# Altium footprint library 7.接插件封装.PcbLib: 201 footprints (part 11 of 13)
Each footprint in its own frame and in the unit in brackets; x right, y up, seen from the top. Pads: shape width x height; smd on the part's side, far side on the other; paste and mask are expansions set on the pad; w line width, h text height; cw(c..) or ccw(c..) is an arc to the next point about the centre after c.
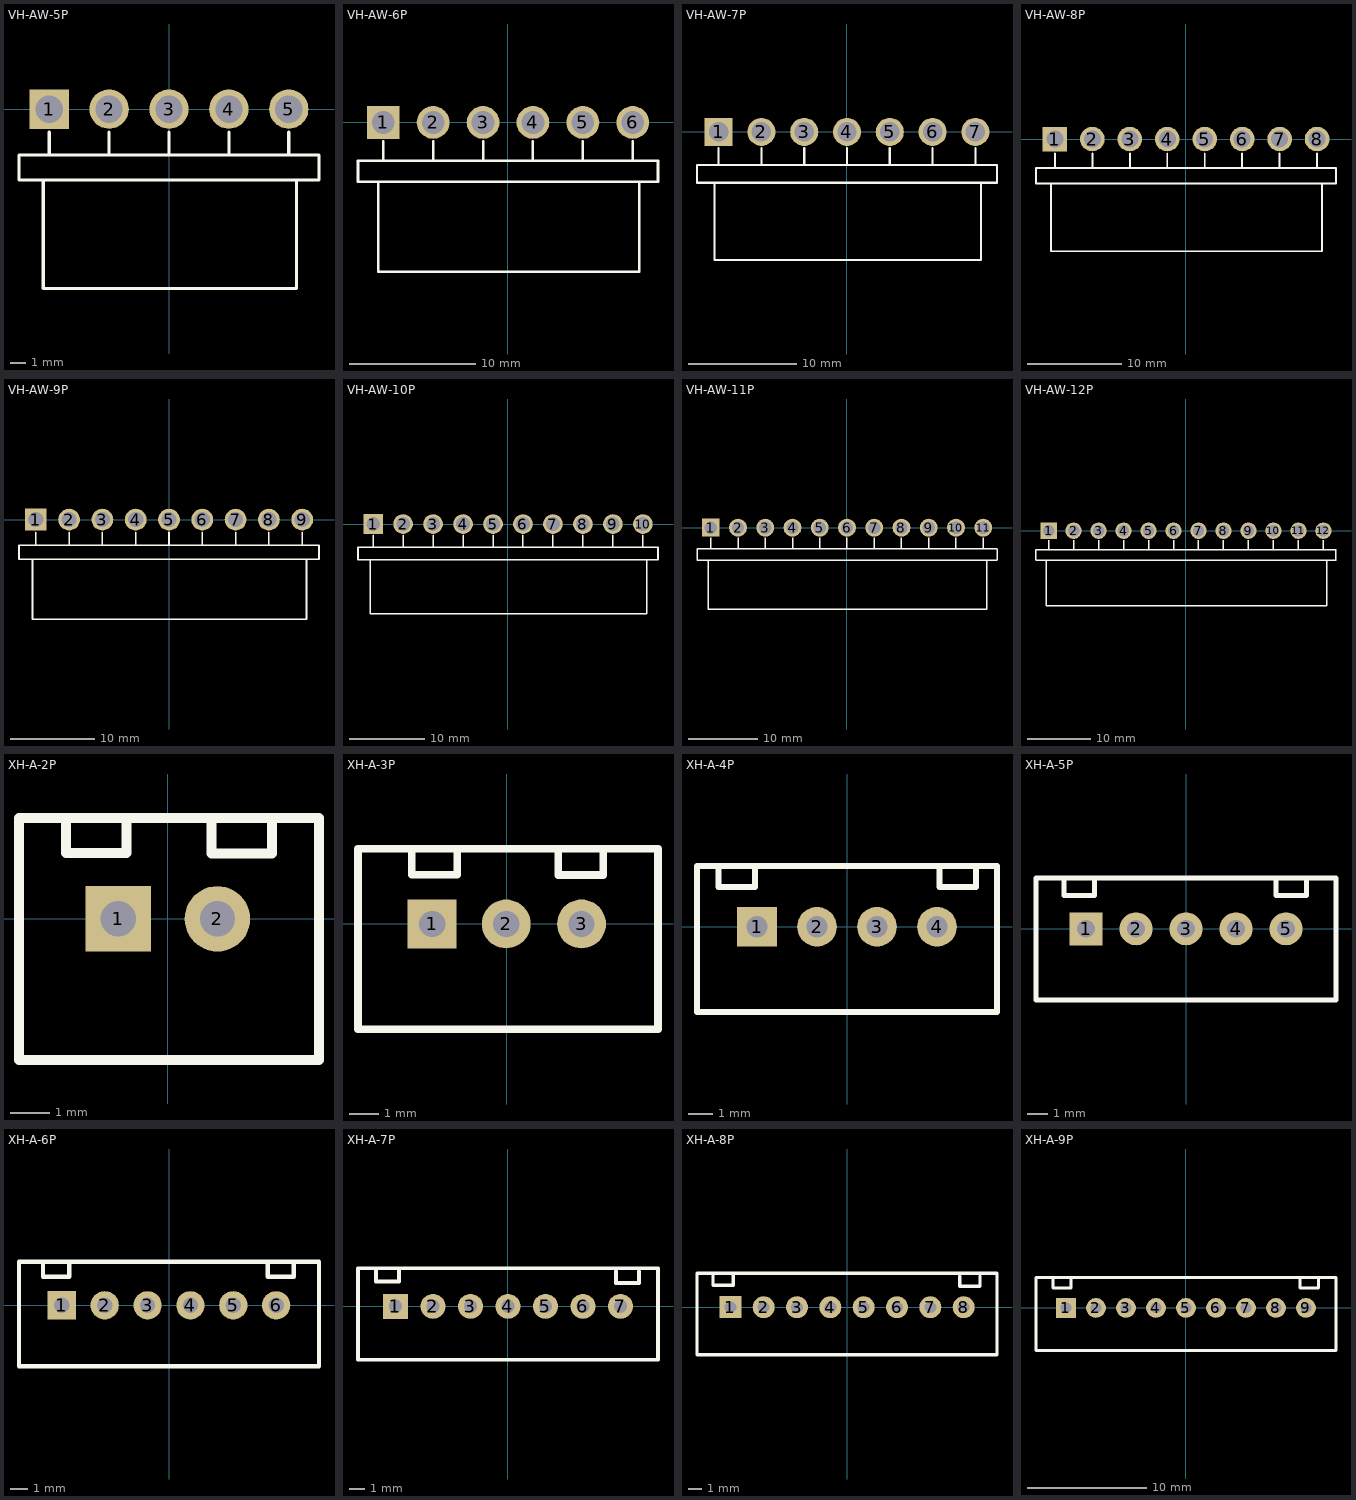
[diagram p10: the footprints below, top view; thin cyan lines are the x and y axes]

## VH-AW-5P [mm]
height 1.4
pads (5):
  rect 2.6x2.6 hole 1.8: 1(-7.92,0)
  round 2.6 hole 1.8: 2(-3.96,0) 3(0,0) 4(3.96,0) 5(7.92,0)
Top Overlay:
  lines w0.2: -9.92,-4.7 -9.92,-3.048 9.911,-3.048 9.92,-3.057 9.92,-4.7 ; -9.901,-4.7 9.911,-4.7 ; -8.316,-4.699 -8.316,-11.862 8.428,-11.862 8.428,-4.724 ; -7.92,-3.048 -7.92,-1.5 ; -3.96,-3.048 -3.96,-1.5 ; 0,-3.048 0,-1.5 ; 3.96,-3.048 3.96,-1.5 ; 7.92,-3.048 7.92,-1.5

## VH-AW-6P [mm]
pads (6):
  rect 2.6x2.6 hole 1.8: 1(-9.9,0)
  round 2.6 hole 1.8: 2(-5.94,0) 3(-1.98,0) 4(1.98,0) 5(5.94,0) 6(9.9,0)
Top Overlay:
  lines w0.2: -11.9,-4.7 -11.9,-3.048 11.9,-3.048 ; -11.881,-4.7 11.9,-4.7 11.9,-3.057 11.891,-3.048 ; -10.296,-4.699 -10.296,-11.862 10.408,-11.862 10.408,-4.724 ; -9.9,-3.048 -9.9,-1.5 ; -5.94,-3.048 -5.94,-1.5 ; -1.98,-3.048 -1.98,-1.5 ; 1.98,-3.048 1.98,-1.5 ; 5.94,-3.048 5.94,-1.5 ; 9.9,-3.048 9.9,-1.5

## VH-AW-7P [mm]
pads (7):
  rect 2.6x2.6 hole 1.8: 1(-11.88,0)
  round 2.6 hole 1.8: 2(-7.92,0) 3(-3.96,0) 4(0,0) 5(3.96,0) 6(7.92,0) 7(11.88,0)
Top Overlay:
  lines w0.2: -13.88,-4.7 -13.88,-3.048 13.88,-3.048 ; -13.861,-4.7 13.88,-4.7 13.88,-3.057 ; -12.276,-4.699 -12.276,-11.862 12.388,-11.862 12.388,-4.724 ; -11.88,-3.048 -11.88,-1.5 ; -7.92,-3.048 -7.92,-1.5 ; -3.96,-3.048 -3.96,-1.5 ; 0,-3.048 0,-1.5 ; 3.96,-3.048 3.96,-1.5 ; 5.951,-3.048 5.96,-3.057 ; 7.92,-3.048 7.92,-1.5 ; 11.88,-3.048 11.88,-1.5

## VH-AW-8P [mm]
pads (8):
  rect 2.6x2.6 hole 1.8: 1(-13.86,0)
  round 2.6 hole 1.8: 2(-9.9,0) 3(-5.94,0) 4(-1.98,0) 5(1.98,0) 6(5.94,0) 7(9.9,0) 8(13.86,0)
Top Overlay:
  lines w0.2: -15.86,-4.7 -15.86,-3.048 15.86,-3.048 ; -15.841,-4.7 15.86,-4.7 15.86,-3.057 ; -14.256,-4.699 -14.256,-11.862 14.368,-11.862 14.368,-4.724 ; -13.86,-3.048 -13.86,-1.5 ; -9.9,-3.048 -9.9,-1.5 ; -5.94,-3.048 -5.94,-1.5 ; -1.98,-3.048 -1.98,-1.5 ; 1.98,-3.048 1.98,-1.5 ; 3.971,-3.048 3.98,-3.057 ; 5.94,-3.048 5.94,-1.5 ; 9.9,-3.048 9.9,-1.5 ; 13.86,-3.048 13.86,-1.5

## VH-AW-9P [mm]
pads (9):
  rect 2.6x2.6 hole 1.8: 1(-15.84,0)
  round 2.6 hole 1.8: 2(-11.88,0) 3(-7.92,0) 4(-3.96,0) 5(0,0) 6(3.96,0) 7(7.92,0) 8(11.88,0) 9(15.84,0)
Top Overlay:
  lines w0.2: -17.84,-4.7 -17.84,-3.048 17.84,-3.048 ; -17.821,-4.7 17.84,-4.7 17.84,-3.057 ; -16.236,-4.699 -16.236,-11.862 16.333,-11.862 ; -15.84,-3.048 -15.84,-1.5 ; -11.88,-3.048 -11.88,-1.5 ; -7.92,-3.048 -7.92,-1.5 ; -3.96,-3.048 -3.96,-1.5 ; 0,-3.048 0,-1.5 ; 1.991,-3.048 2,-3.057 ; 3.96,-3.048 3.96,-1.5 ; 7.92,-3.048 7.92,-1.5 ; 11.88,-3.048 11.88,-1.5 ; 15.84,-3.048 15.84,-1.5 ; 16.348,-11.862 16.348,-4.724

## VH-AW-10P [mm]
pads (10):
  rect 2.6x2.6 hole 1.8: 1(-17.82,0)
  round 2.6 hole 1.8: 2(-13.86,0) 3(-9.9,0) 4(-5.94,0) 5(-1.98,0) 6(1.98,0) 7(5.94,0) 8(9.9,0) 9(13.86,0) 10(17.82,0)
Top Overlay:
  lines w0.2: -19.82,-4.7 -19.82,-3.048 19.82,-3.048 ; -19.801,-4.7 19.82,-4.7 19.82,-3.057 ; -18.216,-4.699 -18.216,-11.862 18.328,-11.862 18.328,-4.724 ; -17.82,-3.048 -17.82,-1.5 ; -13.86,-3.048 -13.86,-1.5 ; -9.9,-3.048 -9.9,-1.5 ; -5.94,-3.048 -5.94,-1.5 ; -1.98,-3.048 -1.98,-1.5 ; 0.011,-3.048 0.02,-3.057 ; 1.98,-3.048 1.98,-1.5 ; 5.94,-3.048 5.94,-1.5 ; 9.9,-3.048 9.9,-1.5 ; 13.86,-3.048 13.86,-1.5 ; 17.82,-3.048 17.82,-1.5

## VH-AW-11P [mm]
pads (11):
  rect 2.6x2.6 hole 1.8: 1(-19.8,0)
  round 2.6 hole 1.8: 2(-15.84,0) 3(-11.88,0) 4(-7.92,0) 5(-3.96,0) 6(0,0) 7(3.96,0) 8(7.92,0) 9(11.88,0) 10(15.84,0) 11(19.8,0)
Top Overlay:
  lines w0.2: -21.8,-4.7 -21.8,-3.048 21.8,-3.048 ; -21.781,-4.7 21.8,-4.7 21.8,-3.057 ; -20.196,-4.699 -20.196,-11.862 20.308,-11.862 ; -19.8,-3.048 -19.8,-1.5 ; -15.84,-3.048 -15.84,-1.5 ; -11.88,-3.048 -11.88,-1.5 ; -7.92,-3.048 -7.92,-1.5 ; -3.96,-3.048 -3.96,-1.5 ; -1.969,-3.048 -1.96,-3.057 ; 0,-3.048 0,-1.5 ; 3.96,-3.048 3.96,-1.5 ; 7.92,-3.048 7.92,-1.5 ; 11.88,-3.048 11.88,-1.5 ; 15.84,-3.048 15.84,-1.5 ; 19.8,-3.048 19.8,-1.5 ; 20.308,-11.862 20.308,-4.724

## VH-AW-12P [mm]
pads (12):
  rect 2.6x2.6 hole 1.8: 1(-21.78,0)
  round 2.6 hole 1.8: 2(-17.82,0) 3(-13.86,0) 4(-9.9,0) 5(-5.94,0) 6(-1.98,0) 7(1.98,0) 8(5.94,0) 9(9.9,0) 10(13.86,0) 11(17.82,0) 12(21.78,0)
Top Overlay:
  lines w0.2: -23.78,-4.7 -23.78,-3.048 23.78,-3.048 ; -23.761,-4.7 23.78,-4.7 ; -22.176,-4.699 -22.176,-11.862 22.288,-11.862 22.288,-4.724 ; -21.78,-3.048 -21.78,-1.5 ; -17.82,-3.048 -17.82,-1.5 ; -13.86,-3.048 -13.86,-1.5 ; -9.9,-3.048 -9.9,-1.5 ; -5.94,-3.048 -5.94,-1.5 ; -3.949,-3.048 -3.94,-3.057 ; -1.98,-3.048 -1.98,-1.5 ; 1.98,-3.048 1.98,-1.5 ; 5.94,-3.048 5.94,-1.5 ; 9.9,-3.048 9.9,-1.5 ; 13.86,-3.048 13.86,-1.5 ; 17.82,-3.048 17.82,-1.5 ; 21.78,-3.048 21.78,-1.5 ; 23.78,-4.7 23.78,-3.057

## XH-A-2P [mil]
height 275.59
pads (2):
  rect 65x65 hole 35: 1(-49.21,0)
  round 65 hole 35: 2(49.21,0)
Top Overlay:
  lines w10: -101.1,96.18 -101.1,65.31 -41.1,65.31 -41.1,96.18 ; 43.19,96.18 43.19,65 103.19,65 103.19,96.18 ; -147.64,-140 150,-140 150,100 -147.64,100 -147.64,-140

## XH-A-3P [mil]
height 275.59
pads (3):
  rect 65x65 hole 35: 1(-99.21,0)
  round 65 hole 35: 2(-0.79,0) 3(99.21,0)
Top Overlay:
  lines w10: -126.1,96.18 -126.1,65.31 -66.1,65.31 -66.1,96.18 ; 68.19,96.18 68.19,65 128.19,65 128.19,96.18 ; -197.64,-140 200.79,-140 200.79,100 -197.64,100 -197.64,-140

## XH-A-4P [mil]
height 275.59
pads (4):
  rect 65x65 hole 35: 1(-147.64,0)
  round 65 hole 35: 2(-49.21,0) 3(49.21,0) 4(147.64,0)
Top Overlay:
  lines w10: -210.59,96.18 -210.59,65.31 -150.59,65.31 -150.59,96.18 ; 151.61,96.18 151.61,65.31 211.61,65.31 211.61,96.18 ; -246.06,-140 246.06,-140 246.06,100 -246.06,100 -246.06,-140

## XH-A-5P [mil]
height 275.59
pads (5):
  rect 65x65 hole 35: 1(-196.85,0)
  round 65 hole 35: 2(-98.43,0) 3(0,0) 4(98.43,0) 5(196.85,0)
Top Overlay:
  lines w10: -240.12,96.18 -240.12,65.31 -180.12,65.31 -180.12,96.18 ; 177.2,96.18 177.2,65.31 237.2,65.31 237.2,96.18 ; -295.28,-140 -295.28,100 295.28,100 295.28,-140 -295.28,-140

## XH-A-6P [mil]
height 275.59
pads (6):
  rect 65x65 hole 35: 1(-246.06,0)
  round 65 hole 35: 2(-147.64,0) 3(-49.21,0) 4(49.21,0) 5(147.64,0) 6(246.06,0)
Top Overlay:
  lines w10: -289.33,96.18 -289.33,65.31 -229.33,65.31 -229.33,96.18 ; 226.42,96.18 226.42,65.31 286.42,65.31 286.42,96.18 ; -344.49,-140 -344.49,100 344.49,100 344.49,-140 -344.49,-140

## XH-A-7P [mil]
pads (7):
  rect 65x65 hole 35: 1(-295.28,0)
  round 65 hole 35: 2(-196.85,0) 3(-98.43,0) 4(0,0) 5(98.43,0) 6(196.85,0) 7(295.28,0)
Top Overlay:
  lines w10: -346.42,96.18 -346.42,65.31 -286.42,65.31 -286.42,96.18 ; 283.5,92.24 283.5,61.38 343.5,61.38 343.5,92.24 ; -393.7,-140 393.71,-140 393.7,100 -393.7,100 -393.7,-140

## XH-A-8P [mil]
height 275.59
pads (8):
  rect 65x65 hole 35: 1(-344.49,0)
  round 65 hole 35: 2(-246.06,0) 3(-147.64,0) 4(-49.21,0) 5(49.21,0) 6(147.64,0) 7(246.06,0) 8(344.49,0)
Top Overlay:
  lines w10: -395.63,96.18 -395.63,65.31 -335.63,65.31 -335.63,96.18 ; 332.72,92.24 332.72,61.38 392.72,61.38 392.72,92.24 ; -442.91,-140 -442.91,100 442.91,100 442.91,-140 -442.91,-140

## XH-A-9P [mil]
height 275.59
pads (9):
  rect 65x65 hole 35: 1(-393.7,0)
  round 65 hole 35: 2(-295.28,0) 3(-196.85,0) 4(-98.43,0) 5(0,0) 6(98.43,0) 7(196.85,0) 8(295.28,0) 9(393.7,0)
Top Overlay:
  lines w10: -436.97,96.18 -436.97,65.31 -376.97,65.31 -376.97,96.18 ; 374.18,96.18 374.18,65.31 434.18,65.31 434.18,96.18 ; 491.43,-140 -492.13,-140 -492.13,100 491.43,100 ; 492.25,-140 492.25,100